# EAGLE library part 78615 (library trafo-murata)
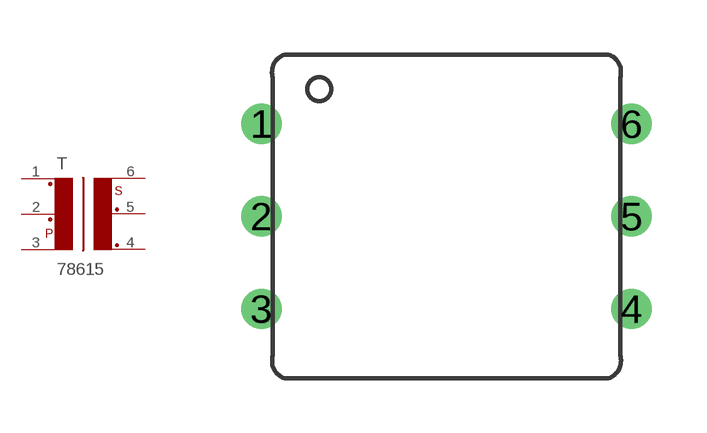
[diagram p6: symbol with the pads of 786-6; footprint 786-6]

Designator prefix T

## 78615  [786-6]
1  1  pas
2  2  pas
3  3  pas
4  4  pas
5  5  pas
6  6  pas

## Footprint 786-6 (pad centres in mm)
drill 0.6: 1 -5.08,2.54; 2 -5.08,0; 3 -5.08,-2.54; 4 5.08,-2.54; 5 5.08,0; 6 5.08,2.54